# Altium integrated library LQG15HS47NJ02D.IntLib: 1 symbol
Pins are listed as number, name and electrical type; pins without a type are passive.

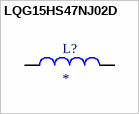
[diagram p0: symbol LQG15HS47NJ02D]

## LQG15HS47NJ02D
designator L?
Inductor RF Chip Unshielded Multi-Layer 47nH 5% 100MHz 8Q-Factor Ceramic 200mA 720mOhm DCR 0402 T/R; MP: LQG15HS47NJ02D; Package: None; Price: None; Value: *; Availability: Unavailable
footprint INDC1005X55N
pins: 1, 2